# Altium schematic symbol library PCA82C250T-YM.Schlib: 1 symbol
Pins are listed as number, name and electrical type; pins without a type are passive.

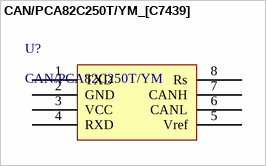
[diagram p0: symbol CAN/PCA82C250T/YM_[C7439]]

## CAN/PCA82C250T/YM_[C7439]
designator U?, comment CAN/PCA82C250T/YM
CAN
footprint SOIC-8_150mil
pins: 1 TXD, 2 GND, 3 VCC, 4 RXD, 5 Vref, 6 CANL, 7 CANH, 8 Rs